# EAGLE library part 62000911622 (library Wire-to-Board (rev18a))
WR-WTB 2.00mm Male Vertical Shrouded Header, 9 Pins=>Code : Con_WTB_2.00_PCB_THT_62000911622 <http://katalog.we-online.de/media/thumbs2/eican/thb_Con_WTB_2.00_PCB_THT_6200xx11622_pf2.jpg> Details see: http://katalog.we-online.de/en/em/WTB_2_00_MALE_VERTICAL_SHROUDED_HEADER_6200XX11622 Created 2014-06-05, Karrer Zheng 2014 (C) Würth Elektronik
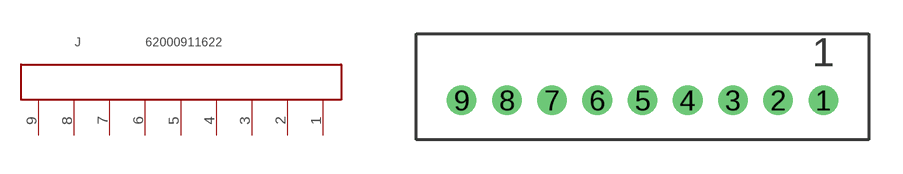
[diagram p28: symbol with the pads of 62000911622; footprint 62000911622]

Designator prefix J

## 62000911622  [62000911622]
1  1  pas
2  2  pas
3  3  pas
4  4  pas
5  5  pas
6  6  pas
7  7  pas
8  8  pas
9  9  pas

## Footprint 62000911622 (pad centres in mm)
WR-WTB 2.00mm Male Vertical Shrouded Header, 9 Pins
drill 0.8: 1 8,0; 2 6,0; 3 4,0; 4 2,0; 5 0,0; 6 -2,0; 7 -4,0; 8 -6,0; 9 -8,0